# Altium integrated library Connectors.IntLib: 76 symbols
Pins are listed as number, name and electrical type; pins without a type are passive.

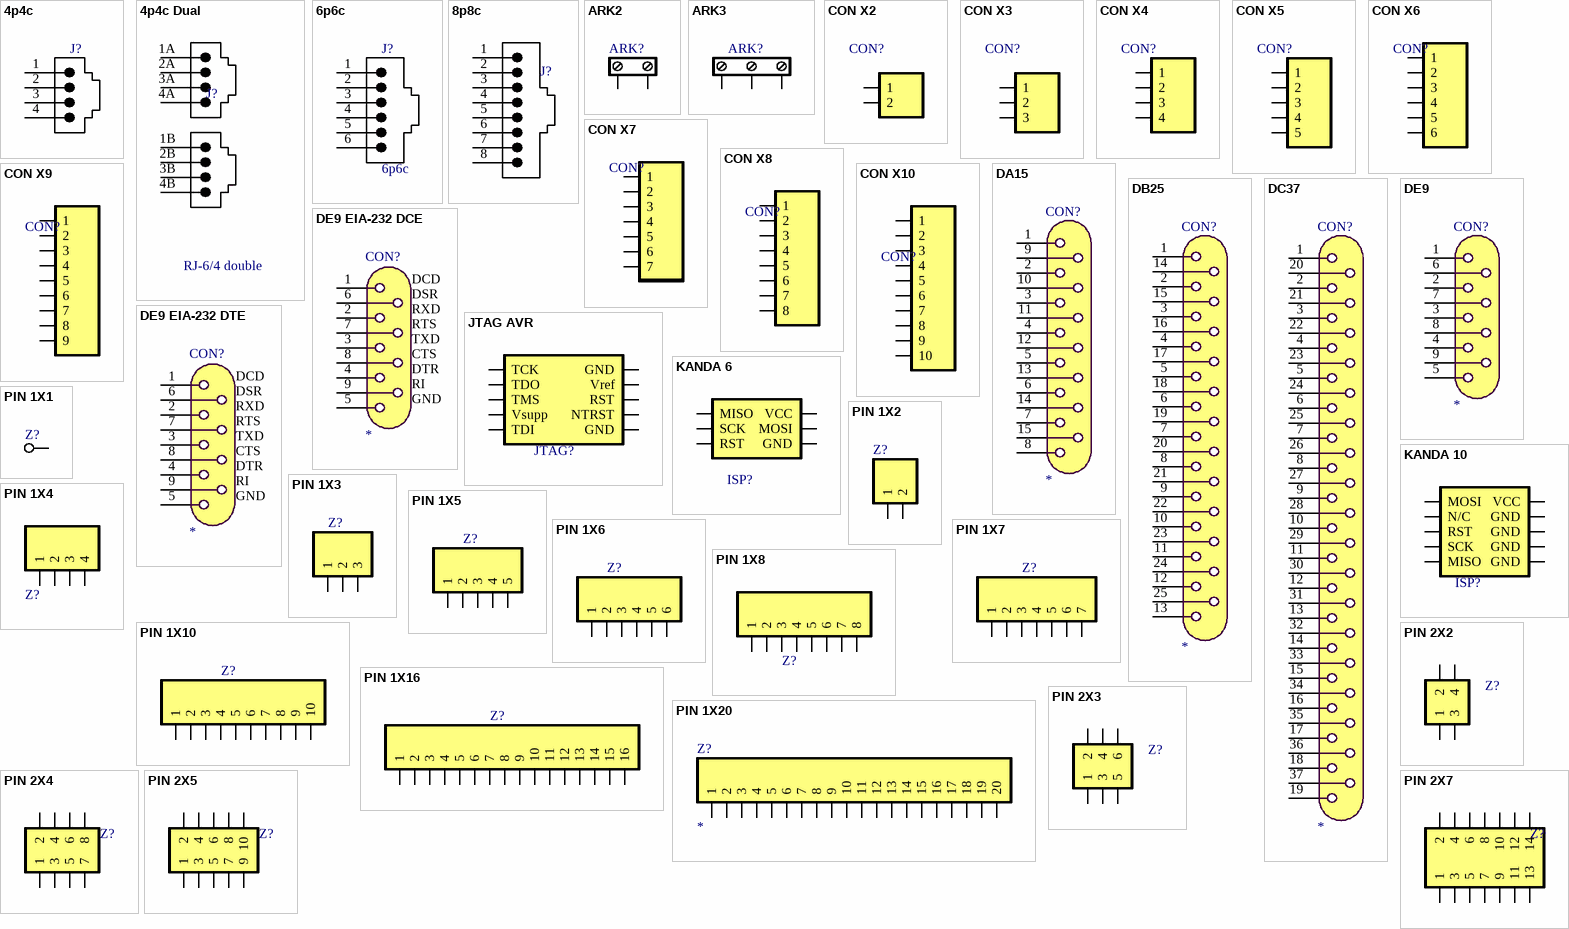
[diagram p0: symbols 4p4c to PIN 2X7]

## 4p4c
designator J?  (value not drawn)
Right Angle, Low Profile, Flangeless PCB Jack; Ports: 1; Positions/Loaded: Port1 - 4/4; PerformanceCategory: 3; PCB_Mounting: Thru-Hole; DrillSize: Nominal, Rounded to nearest 0.05mm; PCB_Layout: Complies with Manufacturer's Recommendation.; Published: 25-Jun-2002; DatasheetDocument: 17-Dec-2001; PackageDocument: 17-Dec-2001; PackageReference: 95001-2441; Publisher: Altium Limited; ComponentLink1Description: Manufacturer Link; ComponentLink1URL: http://www.molex.com/; ComponentLink2Description: Datasheet; ComponentLink2URL: http://www.molex.com/cmc_upload/common_files/1222003_mx95001b.pdf; ComponentLink3Description: Iges Model; ComponentLink3URL: http://www.molex.com/pdm_docs/igs/95001-2441_igs.zip
footprint 4p4c (Connector; PCB Jack, Thru-Hole; 1-Port, 4 Positions, 4 Loaded; Unshielded without Lightpipes; Right Angle)
signal-integrity model Modular Jack
pins: 1, 2, 3, 4

## 4p4c Dual
designator J?, comment RJ-6/4 double
Right Angle, Low Profile, Flangeless PCB Jack; Ports: 1; Positions/Loaded: Port1 - 4/4; PerformanceCategory: 3; PCB_Mounting: Thru-Hole; DrillSize: Nominal, Rounded to nearest 0.05mm; PCB_Layout: Complies with Manufacturer's Recommendation.; Published: 25-Jun-2002; DatasheetDocument: 17-Dec-2001; PackageDocument: 17-Dec-2001; PackageReference: 95001-2441; Publisher: Altium Limited; ComponentLink1Description: Manufacturer Link; ComponentLink1URL: http://www.molex.com/; ComponentLink2Description: Datasheet; ComponentLink2URL: http://www.molex.com/cmc_upload/common_files/1222003_mx95001b.pdf; ComponentLink3Description: Iges Model; ComponentLink3URL: http://www.molex.com/pdm_docs/igs/95001-2441_igs.zip
footprint 6p4c_double (Connector; PCB Jack, Thru-Hole; 2-Port, 6 Positions, 4 Loaded; Unshielded without Lightpipes; Right Angle)
pins: 1A 1, 1B 1, 2A 2, 2B 2, 3A 3, 3B 3, 4A 4, 4B 4

## 6p6c
designator J?
Right Angle, Low Profile, Flangeless PCB Jack; Ports: 1; Positions/Loaded: Port1 - 6/6; PerformanceCategory: 3; PCB_Mounting: Thru-Hole; DrillSize: Nominal, Rounded to nearest 0.05mm; PCB_Layout: Complies with Manufacturer's Recommendation.; Published: 25-Jun-2002; DatasheetDocument: 17-Dec-2001; PackageDocument: 17-Dec-2001; PackageReference: 95001-2661; Publisher: Altium Limited; ComponentLink1Description: Manufacturer Link; ComponentLink1URL: http://www.molex.com/; ComponentLink2Description: Datasheet; ComponentLink2URL: http://www.molex.com/cmc_upload/common_files/1222003_mx95001b.pdf; ComponentLink3Description: Iges Model; ComponentLink3URL: http://www.molex.com/pdm_docs/igs/95001-2441_igs.zip
footprint 6p6c (Connector; PCB Jack, Thru-Hole; 1-Port, 6 Positions, 6 Loaded; Unshielded without Lightpipes; Right Angle)
signal-integrity model Modular Jack
footprint 6p6c_L
pins: 1, 2, 3, 4, 5, 6

## 8p8c
designator J?  (value not drawn)
Right Angle, Low Profile, Flangeless PCB Jack; Ports: 1; Positions/Loaded: Port1 - 8/8; PerformanceCategory: 3; PCB_Mounting: Thru-Hole; DrillSize: Nominal, Rounded to nearest 0.05mm; PCB_Layout: Complies with Manufacturer's Recommendation.; Published: 25-Jun-2002; DatasheetDocument: 17-Dec-2001; PackageDocument: 17-Dec-2001; PackageReference: 95001-2881; Publisher: Altium Limited; ComponentLink1Description: Manufacturer Link; ComponentLink1URL: http://www.molex.com/; ComponentLink2Description: Datasheet; ComponentLink2URL: http://www.molex.com/cmc_upload/common_files/1222003_mx95001b.pdf; ComponentLink3Description: Iges Model; ComponentLink3URL: http://www.molex.com/pdm_docs/igs/95001-2441_igs.zip
footprint 8p8c (Connector; PCB Jack, Thru-Hole; 1-Port, 8 Positions, 8 Loaded; Unshielded without Lightpipes; Right Angle)
signal-integrity model Modular Jack
pins: 1, 2, 3, 4, 5, 6, 7, 8

## ARK2
designator ARK?  (value not drawn)
Terminal Block; Header Assembly; 2 Poles;
footprint ARK 2 200
footprint ARK 2 125
pins: 1, 2

## ARK3
designator ARK?  (value not drawn)
Terminal Block; Header Assembly; 3 Poles;
footprint ARK 3 200
footprint ARK 3 125
pins: 1, 2, 3

## CON X2
designator CON?  (value not drawn)
Terminal Block;Male; 2 Pins; Single Row;
footprint 2EDGVC-5.08-02P (Connector Block; Male; Straight; 5.08mm; THT;)
pins: 1, 2

## CON X3
designator CON?  (value not drawn)
Terminal Block;Male; 3 Pins; Single Row;
footprint 2EDGVC-5.08-03P (Connector Block; Male; Straight; 5.08mm; THT;)
pins: 1, 2, 3

## CON X4
designator CON?  (value not drawn)
Terminal Block;Male; 4 Pins; Single Row;
footprint 2EDGVC-5.08-04P (Connector Block; Male; Straight; 5.08mm; THT;)
pins: 1, 2, 3, 4

## CON X5
designator CON?  (value not drawn)
Terminal Block;Male; 5 Pins; Single Row;
footprint 2EDGVC-5.08-05P (Connector Block; Male; Straight; 5.08mm; THT;)
pins: 1, 2, 3, 4, 5

## CON X6
designator CON?  (value not drawn)
Terminal Block;Male; 6 Pins; Single Row;
footprint 2EDGVC-5.08-06P (Connector Block; Male; Straight; 5.08mm; THT;)
pins: 1, 2, 3, 4, 5, 6

## CON X7
designator CON?  (value not drawn)
Terminal Block;Male; 7 Pins; Single Row;
footprint 2EDGVC-5.08-07P (Connector Block; Male; Straight; 5.08mm; THT;)
pins: 1, 2, 3, 4, 5, 6, 7

## CON X8
designator CON?  (value not drawn)
Terminal Block;Male; 8 Pins; Single Row;
footprint 2EDGVC-5.08-08P (Connector Block; Male; Straight; 5.08mm; THT;)
pins: 1, 2, 3, 4, 5, 6, 7, 8

## CON X9
designator CON?  (value not drawn)
Terminal Block;Male; 9 Pins; Single Row;
footprint 2EDGVC-5.08-09P (Connector Block; Male; Straight; 5.08mm; THT;)
pins: 1, 2, 3, 4, 5, 6, 7, 8, 9

## CON X10
designator CON?  (value not drawn)
Terminal Block;Male; 10 Pins; Single Row;
footprint 2EDGVC-5.08-10P (Connector Block; Male; Straight; 5.08mm; THT;)
pins: 1, 2, 3, 4, 5, 6, 7, 8, 9, 10

## DA15
designator CON?
D-sub Connector, 15-pin, A-shell
footprint DB-15/M
footprint DB-15/F
footprint DB-15RA/M
footprint DB-15RA/F
pins: 1, 2, 3, 4, 5, 6, 7, 8, 9, 10, 11, 12, 13, 14, 15

## DB25
designator CON?
D-sub Connector, 25-pin, B-shell
footprint DB-25/M
footprint DB-25/F
footprint DB-25RA/M
footprint DB-25RA/F
footprint DB-25/Edge
pins: 1, 2, 3, 4, 5, 6, 7, 8, 9, 10, 11, 12, 13, 14, 15, 16, 17, 18, 19, 20, 21, 22, 23, 24, 25

## DC37
designator CON?
D-sub Connector, 37-pin, C-shell
footprint DB-37/M
footprint DB-37/F
footprint DB-37RA/F
footprint DB-37RA/M
pins: 1, 2, 3, 4, 5, 6, 7, 8, 9, 10, 11, 12, 13, 14, 15, 16, 17, 18, 19, 20, 21, 22, 23, 24, 25, 26, 27, 28, 29, 30, 31, 32, 33, 34, 35, 36, 37

## DE9
designator CON?
D-sub Connector, 9-pin, E-shell
footprint DB-9/M
footprint DB-9/F
footprint DB-9RA/M
footprint DB-9RA/F
pins: 1, 2, 3, 4, 5, 6, 7, 8, 9

## DE9 EIA-232 DCE
designator CON?
D-sub Connector, 9-pin, E-shell, EIA232 Pinout, DCE female socket
footprint DB-9/F
footprint DB-9RA/F
pins: 1 DCD, 2 RXD, 3 TXD, 4 DTR, 5 GND, 6 DSR, 7 RTS, 8 CTS, 9 RI

## DE9 EIA-232 DTE
designator CON?
D-sub Connector, 9-pin, E-shell, EIA232 Pinout, DTE male socket
footprint DB-9/M
footprint DB-9RA/M
pins: 1 DCD, 2 RXD, 3 TXD, 4 DTR, 5 GND, 6 DSR, 7 RTS, 8 CTS, 9 RI

## JTAG AVR
designator JTAG?  (value not drawn)
AVR JTAG IDC10
footprint PIN 2X5H
footprint PIN 2X5
footprint IDC10
footprint PIN 2X5H SMD
footprint PIN 2X5 SMD
footprint PIN 2x5 Edge
footprint IDC10_SMD
pins: 1 TCK, 2 GND (power), 3 TDO, 4 Vref (power), 5 TMS, 6 RST (power), 7 Vsupp, 8 NTRST (power), 9 TDI, 10 GND (power)

## KANDA 6
designator ISP?  (value not drawn)
AVR Isp IDC6
footprint IDC6
footprint IDC6_SMD
pins: 1 MISO, 2 VCC (power), 3 SCK, 4 MOSI (power), 5 RST, 6 GND (power)

## KANDA 10
designator ISP?  (value not drawn)
AVR Isp IDC10
footprint PIN 2X5H
footprint PIN 2X5
footprint IDC10
footprint PIN 2X5H SMD
footprint PIN 2X5 SMD
footprint PIN 2x5 Edge
footprint IDC10_SMD
pins: 1 MOSI, 2 VCC (power), 3 N/C, 4 GND (power), 5 RST, 6 GND (power), 7 SCK, 8 GND (power), 9 MISO, 10 GND (power)

## PIN 1X1
designator Z?  (value not drawn)
Connectror; Single Pin;
footprint PIN X1 K
footprint PIN X1 O
footprint PIN X1 OL
pins: 1

## PIN 1X2
designator Z?  (value not drawn)
Connectror; 2 Pins; Single Row;
footprint PIN X2
footprint PIN X2 SMD
footprint PIN 2X1 EDGE
footprint PIN X2 EDGE
footprint PIN X2 SMD M
footprint KK2
footprint PIN 2X1 SMD
pins: 1, 2

## PIN 1X3
designator Z?  (value not drawn)
Connectror; 3 Pins; Single Row;
footprint PIN X3
footprint PIN X3 SMD
footprint PIN X3 EDGE
footprint PIN X3 SMD M
footprint KK3
pins: 1, 2, 3

## PIN 1X4
designator Z?  (value not drawn)
Connectror; 4 Pins; Single Row;
footprint PIN X4
footprint PIN X4 EDGE
footprint PIN X4 SMD
footprint PIN X4 SMD M
footprint KK4
pins: 1, 2, 3, 4

## PIN 1X5
designator Z?  (value not drawn)
Connectror; 5 Pins; Single Row;
footprint PIN X5
footprint PIN X5 SMD
footprint PIN X5 EDGE
footprint PIN X5 SMD M
footprint KK5
pins: 1, 2, 3, 4, 5

## PIN 1X6
designator Z?  (value not drawn)
Connectror; 6 Pins; Single Row;
footprint PIN X6
footprint PIN X6 SMD
footprint PIN X6 EDGE
footprint PIN X6 SMD M
footprint KK6
pins: 1, 2, 3, 4, 5, 6

## PIN 1X7
designator Z?  (value not drawn)
Connectror; 7 Pins; Single Row;
footprint PIN X7
footprint PIN X7 SMD
footprint PIN X7 EDGE
footprint KK7
pins: 1, 2, 3, 4, 5, 6, 7

## PIN 1X8
designator Z?  (value not drawn)
Connectror; 8 Pins; Single Row;
footprint PIN X8
footprint PIN X8 Edge
footprint PIN X8 SMD
footprint KK8
pins: 1, 2, 3, 4, 5, 6, 7, 8

## PIN 1X10
designator Z?  (value not drawn)
Connectror; 10 Pins; Single Row;
footprint PIN X10
footprint KK10
pins: 1, 2, 3, 4, 5, 6, 7, 8, 9, 10

## PIN 1X16
designator Z?  (value not drawn)
Connectror; 16 Pins; Single Row;
footprint PIN X16
footprint KK16
footprint PIN X16 SMD
pins: 1, 2, 3, 4, 5, 6, 7, 8, 9, 10, 11, 12, 13, 14, 15, 16

## PIN 1X20
designator Z?
Connectror; 20 Pins; Single Row;
footprint PIN X20
footprint KK20
pins: 1, 2, 3, 4, 5, 6, 7, 8, 9, 10, 11, 12, 13, 14, 15, 16, 17, 18, 19, 20

## PIN 2X2
designator Z?  (value not drawn)
Connectror; 4 Pins; Dual Row;
footprint PIN 2X2
footprint PIN 2X2 SMD
pins: 1, 2, 3, 4

## PIN 2X3
designator Z?  (value not drawn)
Connectror; 6 Pins; Dual Row;
footprint IDC6
footprint IDC6_SMD
footprint PiN 2X3
footprint PIN 2X3 SMD
pins: 1, 2, 3, 4, 5, 6

## PIN 2X4
designator Z?  (value not drawn)
Connectror; 8 Pins; Dual Row;
footprint IDC8
footprint PIN 2X4
footprint PIN 2X4 SMD
pins: 1, 2, 3, 4, 5, 6, 7, 8

## PIN 2X5
designator Z?  (value not drawn)
Connectror; 10 Pins; Dual Row;
footprint PIN 2X5
footprint IDC10
footprint IDC10_SMD
footprint PIN 2X5 SMD
footprint PIN 2X5H
footprint PIN 2X5H SMD
footprint PIN 2x5 Edge
pins: 1, 2, 3, 4, 5, 6, 7, 8, 9, 10

## PIN 2X7
designator Z?  (value not drawn)
Connectror; 14 Pins; Dual Row;
footprint IDC14
pins: 1, 2, 3, 4, 5, 6, 7, 8, 9, 10, 11, 12, 13, 14

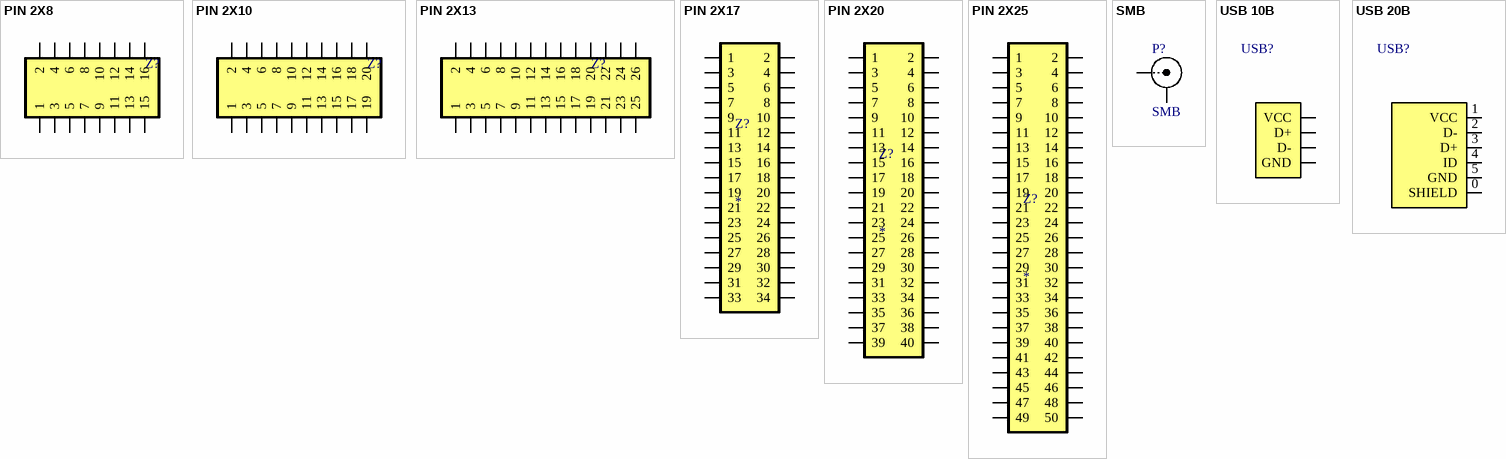
[diagram p1: symbols PIN 2X8 to USB 20B]

## PIN 2X8
designator Z?  (value not drawn)
Connectror; 16 Pins; Dual Row;
footprint IDC16
pins: 1, 2, 3, 4, 5, 6, 7, 8, 9, 10, 11, 12, 13, 14, 15, 16

## PIN 2X10
designator Z?  (value not drawn)
Connectror; 20 Pins; Dual Row;
footprint IDC20
pins: 1, 2, 3, 4, 5, 6, 7, 8, 9, 10, 11, 12, 13, 14, 15, 16, 17, 18, 19, 20

## PIN 2X13
designator Z?  (value not drawn)
Connectror; 26 Pins; Dual Row;
footprint IDC26
footprint PIN 2x13
pins: 1, 2, 3, 4, 5, 6, 7, 8, 9, 10, 11, 12, 13, 14, 15, 16, 17, 18, 19, 20, 21, 22, 23, 24, 25, 26

## PIN 2X17
designator Z?
Connectror; 34 Pins; Dual Row;
footprint IDC34
footprint PIN 2x17
pins: 1, 2, 3, 4, 5, 6, 7, 8, 9, 10, 11, 12, 13, 14, 15, 16, 17, 18, 19, 20, 21, 22, 23, 24, 25, 26, 27, 28, 29, 30, 31, 32, 33, 34

## PIN 2X20
designator Z?
Connectror; 40 Pins; Dual Row;
footprint PIN 2X20 EDGE
footprint IDC40
pins: 1, 2, 3, 4, 5, 6, 7, 8, 9, 10, 11, 12, 13, 14, 15, 16, 17, 18, 19, 20, 21, 22, 23, 24, 25, 26, 27, 28, 29, 30, 31, 32, 33, 34, 35, 36, 37, 38, 39, 40

## PIN 2X25
designator Z?
Connectror; 50 Pins; Dual Row;
footprint PIN 2X25
pins: 1, 2, 3, 4, 4,2 42, 5, 6, 7, 8, 9, 10, 11, 12, 13, 14, 15, 16, 17, 18, 19, 20, 21, 22, 23, 24, 25, 26, 27, 28, 29, 30, 31, 32, 33, 34, 35, 36, 37, 38, 39, 40, 41, 43, 44, 45, 46, 47, 48, 49, 50

## SMB
designator P?
SMB Straight Connector; LatestRevisionDate: 17-Jul-2002; LatestRevisionNote: Re-released for DXP Platform.; Publisher: Altium Limited
footprint SMB_V-RJ45 (Connector; SMB Straight)
signal-integrity model Connector
pins: 1 X, 2 Y

## USB 10B
designator USB?  (value not drawn)
USB Standard B
footprint USBB2.5-2H4D (Connector; USB1.1, Type B, Thru-Hole; 4 Position; Right Angle)
footprint USBB2.5-SMD (Connector; USB1.1, Type B, Thru-Hole; 4 Position; Right Angle; Female;)
pins: 1 VCC, 2 D-, 3 D+, 4 GND, 5 hidden to GND, 6 hidden to GND

## USB 20B
designator USB?  (value not drawn)
USB Mini B
footprint USBB-MINI (Connector; USB2.0, Type B, Surface-Mounted;)
pins: 0 SHIELD (power), 1 VCC, 2 D-, 3 D+, 4 ID, 5 GND (power)


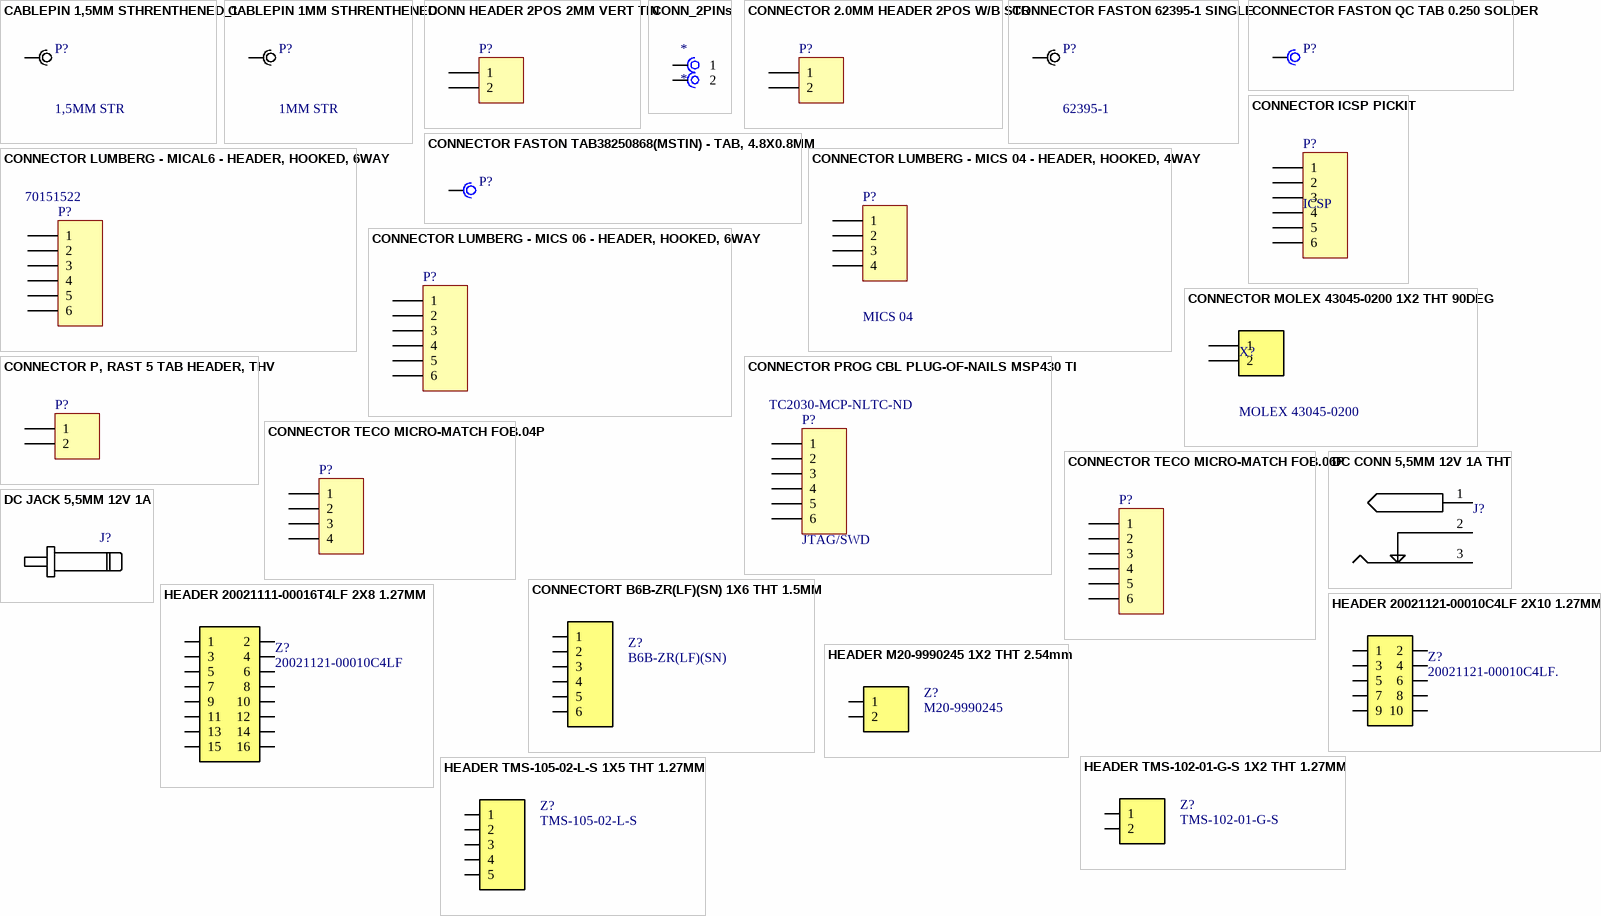
[diagram p2: symbols CABLEPIN 1,5MM STHRENTHENED_1 to HEADER TMS-105-02-L-S 1X5 THT 1.27MM]

## CABLEPIN 1,5MM STHRENTHENED_1
designator P?, comment 1,5MM STR  (no BOM)
Cable soldering pad, 1,5mm, strenthended with vias.
signal-integrity model Connector
footprint CABLEPAD_1.5MM_VIAS (Pad for soldering cable, strenthened, 1mm hole)
pins: 1

## CABLEPIN 1MM STHRENTHENED
designator P?, comment 1MM STR  (no BOM)
Cable soldering pad, 1mm, strenthened with vias.
signal-integrity model Connector
footprint CABLEPAD_1MM_VIAS (Pad for soldering cable, strenthened, 1mm hole)
pins: 1

## CONN HEADER 2POS 2MM VERT TIN
designator P?, comment 0532530270  (value not drawn)
Molex 0532530270; Manufacturer: Molex, LLC; Manufacturer Part Number: 0532530270; Supplier 1: Digi-Key; Supplier Part Number 1: WM19004-ND
signal-integrity model Connector
footprint CON_2mm_BoardWire (Board to Wire 2mm straight header with coining)
pins: 1, 2

## CONN_2PINs
designator *
footprint IDC_2goldpin
pins: 1     1, 2     2

## CONNECTOR 2.0MM HEADER 2POS W/B STR
designator P?, comment 0894000220  (value not drawn)
Molex 0894000220; Manufacturer: Molex, LLC; Supplier 1: Digi-Key; Manufacturer Part Number: 0894000220; Supplier Part Number 1: WM4340-ND
signal-integrity model Connector
footprint CON_2mm_BoardWire (Board to Wire 2mm straight header with coining)
pins: 1, 2

## CONNECTOR FASTON 62395-1 SINGLE
designator P?, comment 62395-1
TE CONNECTIVITY / AMP - 62395-1 - TERMINAL, MALE DISCONNECT, 2.79MM, THT; Overall length: 12.45mm; Supplier 1: TME; Supplier Part Number 1: 62395-1; Manufacturer: TE CONNECTIVITY; Manufacturer Part Number: 62395-1; Thickness: 0.5mm; Width: 2.8mm
signal-integrity model Connector
footprint FASTON_62395-1 (Faston 62395-1,)
pins: 1

## CONNECTOR FASTON QC TAB 0.250 SOLDER
designator P?
6.35mmx0.81mm FOR PE; Manufacturer: TE Connectivity AMP Connectors; Manufacturer Part Number: 63824-1; Tab Length: 0.312" (7.92mm); Tab Width: 0.250" (6.35mm); Tab Thickness: 0.032" (0.81mm); Supplier 1: Digi-Key; Supplier Part Number 1: A29938CT-ND
signal-integrity model Connector
footprint FASTON_635x83 (6.35mm x 0.83mm Faston connector)
pins: 1

## CONNECTOR FASTON TAB38250868(MSTIN) - TAB, 4.8X0.8MM
designator P?
FASTON CONNECTOR 4.8mmx0.8mm; Manufacturer: JST (JAPAN SOLDERLESS TERMINALS); Manufacturer Part Number: TAB38250868(MSTIN); Mounting Hole Dia: 1.3; Supplier 1: Farnell; Tab Size - Metric: 4.8mm x 0.8; ComponentLink1URL: http://www.farnell.com/datasheets/101324.pdf; ComponentLink1Description: http://www.farnell.com/datasheets/101324.pdf; Supplier Part Number 1: 3625576
signal-integrity model Connector
footprint FASTON_645x8 (6.35mm x 0.83mm Faston connector)
pins: 1

## CONNECTOR ICSP PICKIT
designator P?, comment ICSP  (no BOM)
CONNECTOR ICSP PICKIT; Manufacturer Part Number: M20-8770642; Manufacturer: Harwin Inc.; Supplier 1: Digi-Key; Supplier Part Number 1: 952-2552-ND
signal-integrity model Connector
footprint Connector_icsp
pins: 1, 2, 3, 4, 5, 6

## CONNECTOR LUMBERG - MICAL6 - HEADER, HOOKED, 6WAY
designator P?, comment Supplier Part Number 1: 70151522  (hidden comment: MICAL 06)
CONNECTOR LUMBERG - MICAL66 - HEADER, HOOKED, 6WAY; Manufacturer Part Number: MICAL 06; Manufacturer: Lumberg; Supplier 1: Allied
signal-integrity model Connector
footprint MICAL6
pins: 1, 2, 3, 4, 5, 6

## CONNECTOR LUMBERG - MICS 04 - HEADER, HOOKED, 4WAY
designator P?, comment MICS 04
CONNECTOR LUMBERG - MICS 04 - HEADER, HOOKED, 4WAY; Manufacturer Part Number: MICS 04; Manufacturer: LUMBERG; Supplier 1: Allied; Supplier Part Number 1: 70151261
signal-integrity model Connector
footprint MICS04
pins: 1, 2, 3, 4

## CONNECTOR LUMBERG - MICS 06 - HEADER, HOOKED, 6WAY
designator P?, comment MICS 06  (value not drawn)
CONNECTOR LUMBERG - MICS 06 - HEADER, HOOKED, 6WAY; Supplier 1: Farnell; Manufacturer Part Number: MICS 06; Manufacturer: LUMBERG; Supplier Part Number 1: 1216996
signal-integrity model Connector
footprint MICS06
pins: 1, 2, 3, 4, 5, 6

## CONNECTOR MOLEX 43045-0200 1X2 THT 90DEG
designator X?, comment MOLEX 43045-0200
MOLEX - 43045-0200 - HEADER, RIGHT ANGLE, DUAL ROW, 2 WAY; Contact Termination Type: Through Hole; Current Rating: 5; No. of Contacts: 2; Working Voltage: 250; Supplier 1: Farnell; Supplier Part Number 1: 1012251; Manufacturer: MOLEX; Manufacturer Part Number: 43045-0200; No. of Rows: 2
signal-integrity model Connector
footprint MOLEX_43045-0200 (Wire-To-Board Connector, Micro-Fit 3.0™, 43045 Series, 2 Contacts, Header, 3 mm, Through Hole)
pins: 1, 2

## CONNECTOR P, RAST 5 TAB HEADER, THV
designator P?  (value not drawn)
CONNECTOR 2P, RAST 5 TAB HEADER, THV; Manufacturer Part Number: 2-2232043-2; Manufacturer: TE Connectivity AMP Connectors; Supplier 1: Digi-Key; Supplier Part Number 1: A116865-ND
signal-integrity model Connector
footprint RAST5_2PIN
pins: 1, 2

## CONNECTOR PROG CBL PLUG-OF-NAILS MSP430 TI
designator P?, comment JTAG/SWD  Supplier Part Number 1: TC2030-MCP-NLTC-ND  (no BOM)
CONNECTOR PROG CBL PLUG-OF-NAILS MSP430 TI; Supplier 1: Digi-Key
signal-integrity model Connector
pins: 1, 2, 3, 4, 5, 6

## CONNECTOR TECO MICRO-MATCH FOB.04P
designator P?, comment 7-215079-4  (value not drawn)
CONNECTOR TECO MICRO-MATCH FOB.04P; Manufacturer: TE Connectivity; Manufacturer Part Number: 7-215079-4; Supplier 1: Digi-Key; Supplier Part Number 1: A107031TR-ND
signal-integrity model Connector
footprint Micromatch_4pos
pins: 1, 2, 3, 4

## CONNECTOR TECO MICRO-MATCH FOB.06P
designator P?, comment 7-215079-6  (value not drawn)
CONNECTOR TECO MICRO-MATCH FOB.06P; Manufacturer: TE Connectivity AMP Connectors; Manufacturer Part Number: 7-215079-6; Supplier 1: Digi-Key; Supplier Part Number 1: A30729TR-ND
signal-integrity model Connector
footprint Micromatch_6pos
pins: 1, 2, 3, 4, 5, 6

## CONNECTORT B6B-ZR(LF)(SN) 1X6 THT 1.5MM
designator Z?, comment B6B-ZR(LF)(SN)
CONN HEADER ZH TOP 6POS 1.5MM; Manufacturer: JST Sales America Inc.; Number of Positions: 6; Supplier 1: Digi-Key; Supplier Part Number 1: 455-1661-ND; Manufacturer Part Number: B6B-ZR(LF)(SN)
footprint JST_B6B-ZR (Wire-To-Board Connector, JST ZH Series, 6 Contacts, Receptacle, 1.5 mm, Through Hole, 1 Row)
pins: 1, 2, 3, 4, 5, 6

## DC CONN 5,5MM 12V 1A THT
designator J?
DC Power Receptacle, Plasctic Insulator Casing, 5,5mm, 2,1mm; Manufacturer: LUMBERG; Manufacturer Part Number: 1613 18; Current Rating: 1A; Supplier 1: Farnell; Supplier Part Number 1: 1308873
footprint LUMBERG_161318 (Lumberg161318)
pins: 1, 2, 3

## DC JACK 5,5MM 12V 1A
designator J?
DC Power jack, Plasctic Casing, 5,5mm, 2,1mm, 1A; Plug outside diameter: 5.5mm; Plug inside diameter: 2.1mm; Supplier 1: TME; Length of metal part: 14mm; Supplier Part Number 1: PC-003

## HEADER 20021111-00016T4LF 2X8 1.27MM
designator Z?, comment 20021121-00010C4LF
Connector, Vertical, 1.27 mm, 16 Contacts, Header, Minitek127 20021111 Series; Manufacturer: FCI; Manufacturer Part Number: 20021111-00016T4LF; Pitch Spacing: 1.27; No. of Contacts: 16; No. of Rows: 2; Supplier 1: Farnell; Supplier Part Number 1: 1865288
footprint FCI_ 20021111-00016T4LF (Minitek127 20021111, Through-Hole, Header, 16,)
pins: 1, 2, 3, 4, 5, 6, 7, 8, 9, 10, 11, 12, 13, 14, 15, 16

## HEADER 20021121-00010C4LF 2X10 1.27MM
designator Z?, comment 20021121-00010C4LF.
FCI - 20021121-00010C4LF. - CONNECTOR, HEADER, SMT, R/A, 1.27MM, 10P; Pitch Spacing: 1.27; No. of Contacts: 10; No. of Rows: 2; Supplier 1: Farnell; Manufacturer: FCI; Manufacturer Part Number: 20021121-00010C4LF.; Supplier Part Number 1: 1865279
footprint FCI_20021121-00010C4LF (Minitek127 20021121, Surface Mount, Header, 10,)
pins: 1, 2, 3, 4, 5, 6, 7, 8, 9, 10

## HEADER M20-9990245 1X2 THT 2.54mm
designator Z?, comment M20-9990245
HARWIN - M20-9990245 - HEADER, THT, 2.54MM, 1ROW, 2WAY; Pitch Spacing: 2.54; No. of Contacts: 1; No. of Rows: 2; Supplier 1: Farnell; Supplier Part Number 1: 1022245; Manufacturer: HARWIN; Manufacturer Part Number: M20-9990245
footprint HARWIN_M20-9990245 (Board-To-Board Connector, M20 Series, 2 Contacts, Header, 2.54 mm, Through Hole, 1 Row)
pins: 1, 2

## HEADER TMS-102-01-G-S 1X2 THT 1.27MM
designator Z?, comment TMS-102-01-G-S
SAMTEC - TMS-102-01-G-S - CONNECTOR, HEADER, 2POS, 1ROW, 1.27MM; Supplier 1: Farnell; Supplier Part Number 1: 2505048; Manufacturer: SAMTEC; Manufacturer Part Number: TMS-102-01-G-S
footprint SAMTEC_TMS-102-01-G-S (Board-To-Board Connector, TMS Series, 2 Contacts, Header, 1.27 mm, Through Hole, 1 Row)
pins: 1, 2

## HEADER TMS-105-02-L-S 1X5 THT 1.27MM
designator Z?, comment TMS-105-02-L-S
SAMTEC - TMS-105-02-L-S - HEADER, 1.27MM, THT VERT, 5WAY; Pitch Spacing: 1.27; No. of Contacts: 1; No. of Rows: 5; Supplier 1: Farnell; Supplier Part Number 1: 2054933; Manufacturer Part Number: TMS-105-02-L-S; Manufacturer: SAMTEC
footprint SAMTEC_TMS-105-02-L-S (Board-To-Board Connector, TMS Series, 5 Contacts, Header, 1.27 mm, Through Hole, 1 Row)
pins: 1, 2, 3, 4, 5


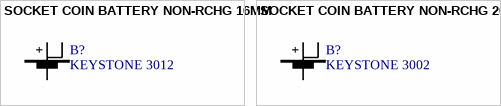
[diagram p3: symbols SOCKET COIN BATTERY NON-RCHG 16MM to SOCKET COIN BATTERY NON-RCHG 20MM]

## SOCKET COIN BATTERY NON-RCHG 16MM
designator B?, comment KEYSTONE 3012
KEYSTONE - 3012 - BATTERY SMD RETAINER, 16MM; Manufacturer Part Number: 3002; Manufacturer: KEYSTONE; Supplier 1: Farnell; Supplier Part Number 1: 1650697
footprint SOCKET_BAT_1632_3012 (Surface mount clips for 1612 batteries)
pins: 1 + (power), 2 + (power), 3 - (power)

## SOCKET COIN BATTERY NON-RCHG 20MM
designator B?, comment KEYSTONE 3002
KEYSTONE - 3002 - BATTERY SMD RETAINER, 20MM; Manufacturer Part Number: 3002; Manufacturer: KEYSTONE; Supplier 1: Farnell; Supplier Part Number 1: 1650693
footprint SOCKET_BAT_2025_3002 (Surface mount clips for 2025 thgought 2032 batteries)
pins: 1 + (power), 2 + (power), 3 - (power)